# Altium footprint library 电容.PCBLIB: 42 footprints (part 1 of 3)
Each footprint in its own frame and in the unit in brackets; x right, y up, seen from the top. Pads: shape width x height; smd on the part's side, far side on the other; paste and mask are expansions set on the pad; w line width, h text height; cw(c..) or ccw(c..) is an arc to the next point about the centre after c.
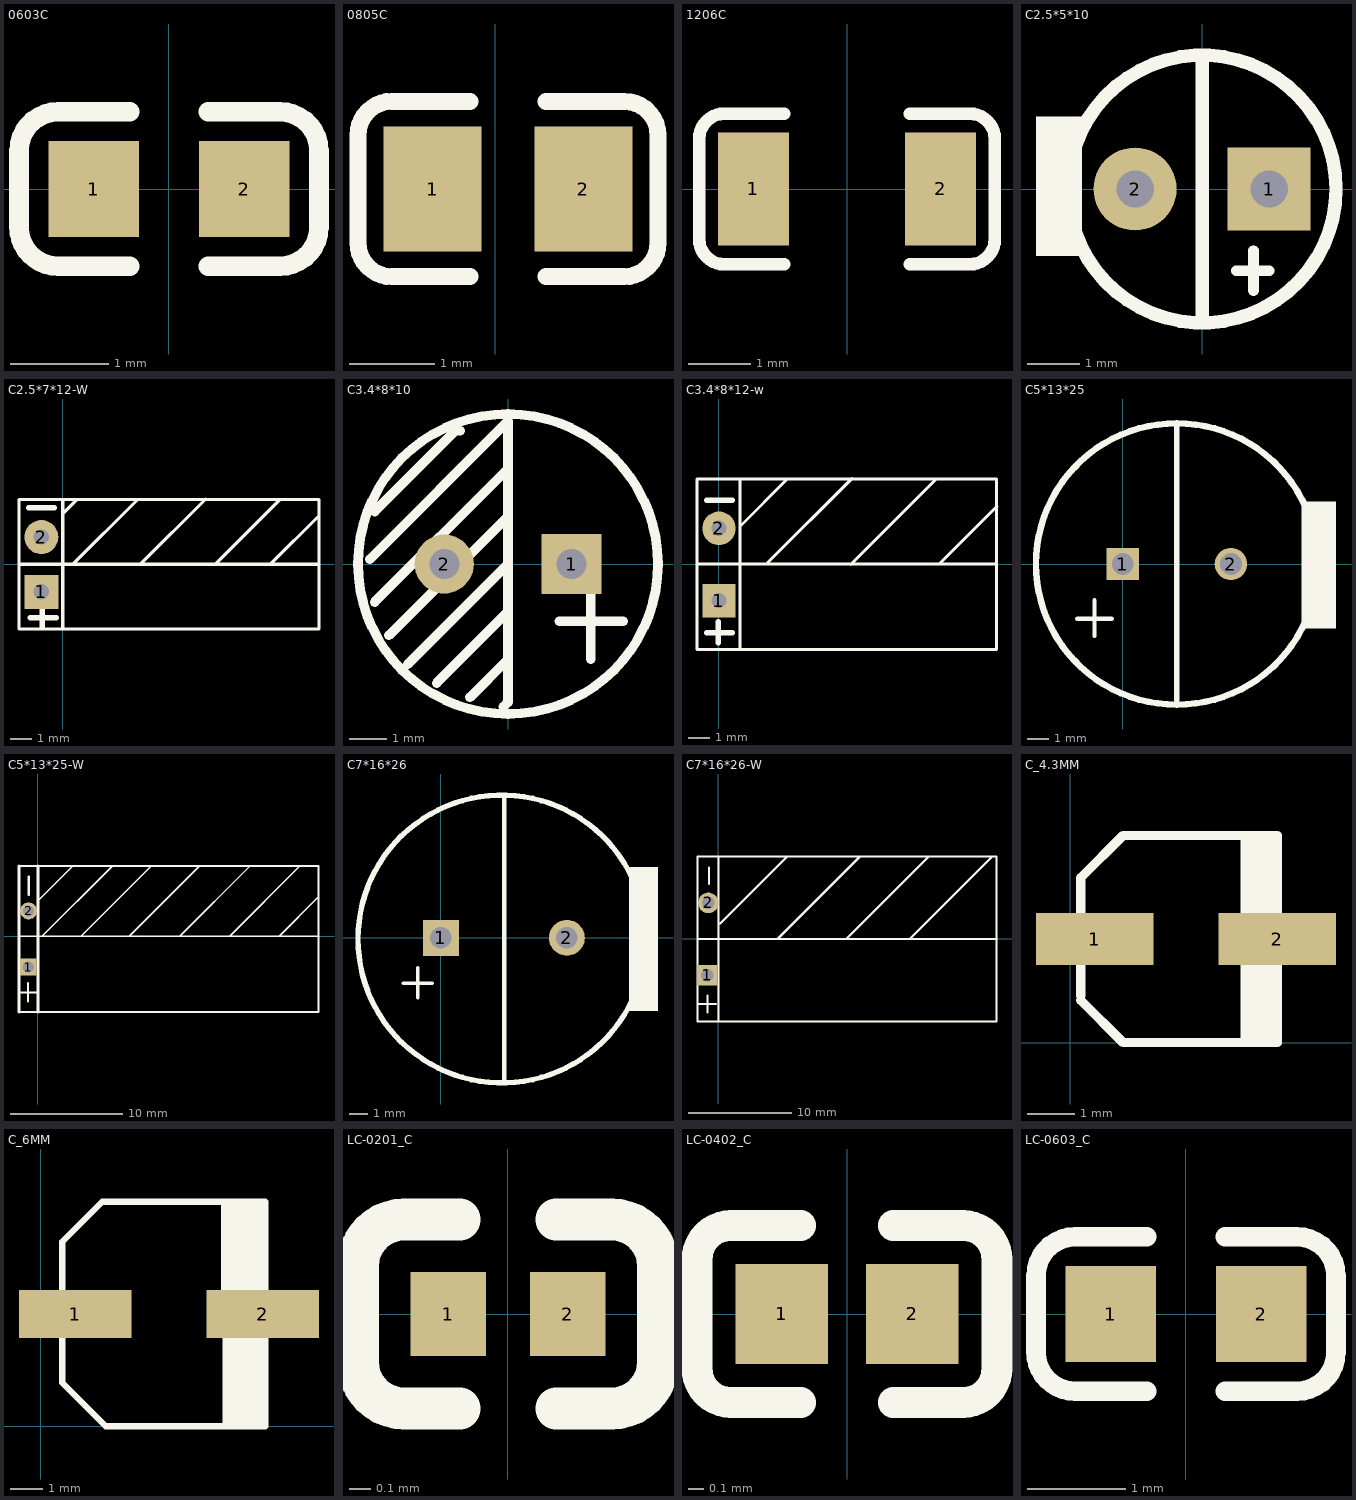
[diagram p0: the footprints below, top view; thin cyan lines are the x and y axes]

## 0603C [mm]
pads (2):
  rect 0.93x0.98 smd: 1(-0.77,0) 2(0.77,0)
TopOverlay:
  lines w0.2: -0.4,-0.79 -1.135,-0.79 cw(c-1.135,-0.39) -1.535,-0.39 -1.535,0.39 cw(c-1.135,0.39) -1.135,0.79 -0.4,0.79 ; 0.4,-0.79 1.135,-0.79 ccw(c1.135,-0.39) 1.535,-0.39 1.535,0.39 ccw(c1.135,0.39) 1.135,0.79 0.4,0.79
3D body: height 0.3, standoff 0, extent -0.8,-0.4 0.8,0.4

## 0805C [mm]
pads (2):
  rect 1.16x1.47 smd: 1(-0.74,-2.5) 2(1.04,-2.5)
TopOverlay:
  lines w0.2: -1.62,-1.865 -1.62,-3.135 ccw(c-1.22,-3.135) -1.22,-3.535 -0.3,-3.535 ; -1.62,-1.865 cw(c-1.22,-1.865) -1.22,-1.465 -0.3,-1.465 ; 0.6,-3.535 1.52,-3.535 ccw(c1.52,-3.135) 1.92,-3.135 1.92,-1.865 ccw(c1.52,-1.865) 1.52,-1.465 0.6,-1.465
3D body: height 0.77, standoff -0.01, extent -0.849,-3.125 1.151,-1.875

## 1206C [mm]
pads (2):
  rect 1.13x1.8 smd: 1(-1.49,0) 2(1.49,0)
TopOverlay:
  lines w0.2: -1,-1.2 -1.955,-1.2 cw(c-1.955,-0.8) -2.355,-0.8 -2.355,0.8 cw(c-1.955,0.8) -1.955,1.2 -1,1.2 ; 1,-1.2 1.955,-1.2 ccw(c1.955,-0.8) 2.355,-0.8 2.355,0.8 ccw(c1.955,0.8) 1.955,1.2 1,1.2
3D body: height 1, standoff 0, extent -1.602,-0.813 1.598,0.787

## C2.5*5*10 [mil]
height 393.7
pads (2):
  rect 62x62 hole 28: 1(50,0)
  round 62 hole 28: 2(-50,0)
TopOverlay:
  circle w10: c0,0 r100
  rectangle: -124,-50.21 -89.56,54.12
  lines w7.87: 25.59,-61.02 50.2,-61.02 ; 38.39,-75.79 38.39,-46.26
  lines w10: 0,-95 0,95

## C2.5*7*12-W [mil]
pads (2):
  rect 62x62 hole 28: 1(-38.98,-50.51)
  round 62 hole 28: 2(-38.98,49.49)
TopOverlay:
  lines w5.91: -78.74,0 465.55,0 ; 0,-118.11 0,118.11 ; 0.98,92.52 24.9,116.44 ; 18.7,0 135.73,117.03 ; 141.73,0 260.43,118.7 ; 278.54,0 396.16,117.62 ; 378.94,0 467.52,88.58 ; -79.72,-118.11 467.52,-118.11 467.52,118.11 -79.72,118.11 -79.72,-118.11
  lines w10: -62.34,103.15 -14.96,103.15 ; -59.39,-97.4 -12.01,-97.4 ; -37.6,-116.14 -37.6,-76.77

## C3.4*8*10 [mm]
pads (2):
  rect 1.6x1.6 hole 0.8: 1(1.7,0)
  round 1.575 hole 0.8: 2(-1.7,0)
TopOverlay:
  circle w0.254: c0,0 r4
  lines w0.254: -3.683,0.127 0,3.81 0,-3.683 -0.127,-3.81 ; -3.556,-1.016 0,2.54 ; -3.556,1.397 -1.397,3.556 -1.27,3.556 ; -3.175,-1.905 0,1.27 ; -2.667,-2.667 0,0 ; -1.905,-3.175 0,-1.27 ; -1.016,-3.556 0,-2.54 ; 1.372,-1.524 3.073,-1.524 ; 2.21,-2.54 2.21,-0.559

## C3.4*8*12-w [mil]
pads (2):
  rect 62x62 hole 28: 1(0,-66.93)
  round 62 hole 28: 2(0,66.93)
TopOverlay:
  lines w5.91: -39.76,0.51 512.2,0.51 ; 38.98,-157.48 38.98,157.48 ; 39.76,71.26 126.77,158.27 ; 89.76,2.76 246.06,159.06 ; 244.49,0 400.79,156.3 ; 408.27,0.79 514.96,107.48 ; -40.75,-157.48 -40.75,158.27 514.17,158.27 514.17,-157.48 -40.75,-157.48
  lines w10: -23.17,-126.81 24.21,-126.81 ; -23.17,118.62 24.21,118.62 ; -1.38,-145.55 -1.38,-106.18

## C5*13*25 [mm]
height 20
pads (2):
  rect 1.5x1.5 hole 1: 1(0,0)
  round 1.5 hole 1: 2(5,0)
TopOverlay:
  circle w0.3: c2.5,0 r6.5
  rectangle: 8.25,-2.975 9.85,2.875
  lines w0.2: -2.1,-2.525 -0.5,-2.525 ; -1.3,-3.325 -1.3,-1.675
  lines w0.25: 2.5,-6.275 2.5,6.5

## C5*13*25-W [mm]
height 20
pads (2):
  rect 1.5x1.5 hole 1: 1(-0.85,-2.75)
  round 1.5 hole 1: 2(-0.825,2.25)
TopOverlay:
  lines w0.15: -1.675,-6.75 -0.05,-6.75 25,-6.75 ; -1.675,6.25 0.075,6.25 ; -1.5,0 25.05,0 ; 0.025,6.25 25,6.25 ; 0.1,3.25 3.1,6.25 ; 0.375,0 6.575,6.2 6.575,6.25 ; 3.85,0 10.1,6.25 ; 8.15,0 14.325,6.175 14.325,6.25 ; 12.65,0 18.9,6.25 ; 16.7,0 17.1,0 23.35,6.25 23.475,6.25 ; 20.925,0 21.225,0 21.5,0 25,3.5
  lines w0.2: -1.675,-5.025 -0.075,-5.025 ; -0.875,-5.825 -0.875,-4.175 ; -0.8,3.675 -0.8,5.325 ; 25,-6.75 25,6.25
  lines w0.25: -1.675,-6.75 -1.675,6.25 ; 0.025,-6.75 0.025,6.25

## C7*16*26 [mm]
height 20
pads (2):
  rect 2x2 hole 1.2: 1(0,0)
  round 2 hole 1.2: 2(7,0)
TopOverlay:
  circle w0.3: c3.389,-0.064 r8
  rectangle: 10.465,-4.064 12.065,3.937
  lines w0.2: -2.1,-2.525 -0.5,-2.525 ; -1.3,-3.325 -1.3,-1.675
  lines w0.25: 3.516,-8.001 3.516,7.874

## C7*16*26-W [mm]
height 20
pads (2):
  rect 2x2 hole 1.2: 1(-1.075,-3.5)
  round 2 hole 1.2: 2(-0.975,3.5)
TopOverlay:
  lines w0.2: -2.025,-7.925 -2.025,8 0.1,8 ; -2,-8 0.1,-8 ; -2,0 27,0 ; -1.9,-6.3 -0.25,-6.3 ; -1.05,-7.1 -1.05,-5.5 ; -0.9,5.35 -0.9,6.95 ; 0.05,-8 0.025,-7.975 0.025,8 26.925,8 ; 0.175,1.5 6.675,8 ; 0.2,-8 26.95,-8 26.95,7.907 ; 5.725,0 13.725,8 ; 12.375,0 20.375,8 ; 18.525,0 26.525,8

## C_4.3MM [mm]
pads (2):
  rect 2.5x1.1 smd: 1(0.525,2.2) 2(4.4,2.2)
TopOverlay:
  rectangle: 3.625,0 4.4,1.65
  rectangle: 3.625,2.75 4.4,4.4
  lines w0.2: 0.225,0.9 1.125,0 4.4,0 4.4,4.4 1.125,4.4 0.225,3.5 0.225,3.35 0.225,1

## C_6MM [mm]
pads (2):
  rect 3.5x1.5 smd: 1(1.075,3.5) 2(6.925,3.5)
TopOverlay:
  rectangle: 5.675,0 7,2.75
  rectangle: 5.625,4.25 7,7
  lines w0.2: 0.675,1.357 0.675,1.5 0.675,5.5 0.675,5.755 1.92,7 7,7 7,0 2.032,0 0.675,1.357

## LC-0201_C [mm]
pads (2):
  rect 0.36x0.4 smd mask+0.051: 1(-0.285,0) 2(0.285,0)
TopOverlay:
  lines w0.2: -0.23,-0.45 -0.495,-0.45 cw(c-0.495,-0.23) -0.715,-0.23 -0.715,0.23 cw(c-0.495,0.23) -0.495,0.45 -0.23,0.45 ; 0.23,-0.45 0.495,-0.45 ccw(c0.495,-0.23) 0.715,-0.23 0.715,0.23 ccw(c0.495,0.23) 0.495,0.45 0.23,0.45
3D body: height 0.31, standoff 0, extent -0.305,-0.152 0.305,0.153

## LC-0402_C [mm]
pads (2):
  rect 0.6x0.65 smd mask+0.051: 1(-0.425,0) 2(0.425,0)
TopOverlay:
  lines w0.2: -0.755,-0.575 cw(c-0.755,-0.355) -0.975,-0.355 -0.975,0.355 cw(c-0.755,0.355) -0.755,0.575 ; -0.75,-0.575 -0.3,-0.575 ; -0.75,0.575 -0.3,0.575 ; 0.3,-0.575 0.75,-0.575 ; 0.3,0.575 0.75,0.575 ; 0.755,-0.575 ccw(c0.755,-0.355) 0.975,-0.355 0.975,0.355 ccw(c0.755,0.355) 0.755,0.575
3D body: height 0.2, standoff 0, extent -0.483,-0.3 0.518,0.3

## LC-0603_C [mm]
pads (2):
  rect 0.93x0.98 smd: 1(-0.77,0) 2(0.77,0)
TopOverlay:
  lines w0.2: -0.4,-0.79 -1.135,-0.79 cw(c-1.135,-0.39) -1.535,-0.39 -1.535,0.39 cw(c-1.135,0.39) -1.135,0.79 -0.4,0.79 ; 0.4,-0.79 1.135,-0.79 ccw(c1.135,-0.39) 1.535,-0.39 1.535,0.39 ccw(c1.135,0.39) 1.135,0.79 0.4,0.79
3D body: height 0.3, standoff 0, extent -0.8,-0.4 0.8,0.4